# Altium footprint library PcbLib1.PcbLib: 1 footprints
Each footprint in its own frame and in the unit in brackets; x right, y up, seen from the top. Pads: shape width x height; smd on the part's side, far side on the other; paste and mask are expansions set on the pad; w line width, h text height; cw(c..) or ccw(c..) is an arc to the next point about the centre after c.
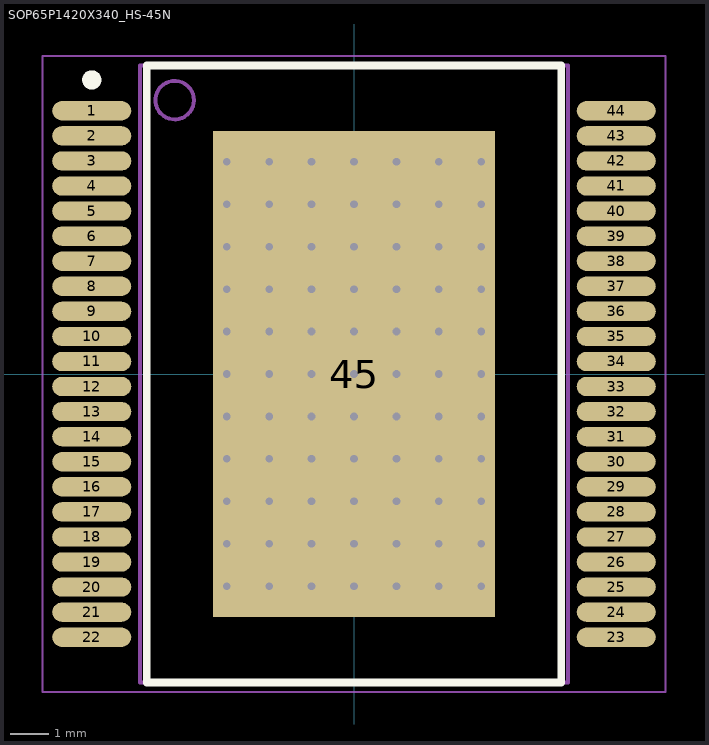
[diagram p0: the footprint, top view; thin cyan lines are the x and y axes]

## SOP65P1420X340_HS-45N [mm] "SOP, 44-Leads, Body 15.90x11.00mm, Pitch 0.65mm, Thermal Pad 12.60x7.30mm, IPC Medium Density"
height 3.4
pads (45):
  oval 2.05x0.5 smd: 1(-6.8,6.825) 2(-6.8,6.175) 3(-6.8,5.525) 4(-6.8,4.875) 5(-6.8,4.225) 6(-6.8,3.575) 7(-6.8,2.925) 8(-6.8,2.275) 9(-6.8,1.625) 10(-6.8,0.975) 11(-6.8,0.325) 12(-6.8,-0.325) 13(-6.8,-0.975) 14(-6.8,-1.625) 15(-6.8,-2.275) 16(-6.8,-2.925) 17(-6.8,-3.575) 18(-6.8,-4.225) 19(-6.8,-4.875) 20(-6.8,-5.525) 21(-6.8,-6.175) 22(-6.8,-6.825) 23(6.8,-6.825) 24(6.8,-6.175) 25(6.8,-5.525) 26(6.8,-4.875) 27(6.8,-4.225) 28(6.8,-3.575) 29(6.8,-2.925) 30(6.8,-2.275) 31(6.8,-1.625) 32(6.8,-0.975) 33(6.8,-0.325) 34(6.8,0.325) 35(6.8,0.975) 36(6.8,1.625) 37(6.8,2.275) 38(6.8,2.925) 39(6.8,3.575) 40(6.8,4.225) 41(6.8,4.875) 42(6.8,5.525) 43(6.8,6.175) 44(6.8,6.825)
  rect 7.3x12.6 smd: 45(0,0)
via 3.3,-5.5 diameter 0.5 hole 0.2
via 2.2,-5.5 diameter 0.5 hole 0.2
via 1.1,-5.5 diameter 0.5 hole 0.2
via 0,-5.5 diameter 0.5 hole 0.2
via -1.1,-5.5 diameter 0.5 hole 0.2
via -2.2,-5.5 diameter 0.5 hole 0.2
via -3.3,-5.5 diameter 0.5 hole 0.2
via 3.3,-4.4 diameter 0.5 hole 0.2
via 2.2,-4.4 diameter 0.5 hole 0.2
via 1.1,-4.4 diameter 0.5 hole 0.2
via 0,-4.4 diameter 0.5 hole 0.2
via -1.1,-4.4 diameter 0.5 hole 0.2
via -2.2,-4.4 diameter 0.5 hole 0.2
via -3.3,-4.4 diameter 0.5 hole 0.2
via 3.3,-3.3 diameter 0.5 hole 0.2
via 2.2,-3.3 diameter 0.5 hole 0.2
via 1.1,-3.3 diameter 0.5 hole 0.2
via 0,-3.3 diameter 0.5 hole 0.2
via -1.1,-3.3 diameter 0.5 hole 0.2
via -2.2,-3.3 diameter 0.5 hole 0.2
via -3.3,-3.3 diameter 0.5 hole 0.2
via 3.3,-2.2 diameter 0.5 hole 0.2
via 2.2,-2.2 diameter 0.5 hole 0.2
via 1.1,-2.2 diameter 0.5 hole 0.2
via 0,-2.2 diameter 0.5 hole 0.2
via -1.1,-2.2 diameter 0.5 hole 0.2
via -2.2,-2.2 diameter 0.5 hole 0.2
via -3.3,-2.2 diameter 0.5 hole 0.2
via 3.3,-1.1 diameter 0.5 hole 0.2
via 2.2,-1.1 diameter 0.5 hole 0.2
via 1.1,-1.1 diameter 0.5 hole 0.2
via 0,-1.1 diameter 0.5 hole 0.2
via -1.1,-1.1 diameter 0.5 hole 0.2
via -2.2,-1.1 diameter 0.5 hole 0.2
via -3.3,-1.1 diameter 0.5 hole 0.2
via 3.3,0 diameter 0.5 hole 0.2
via 2.2,0 diameter 0.5 hole 0.2
via 1.1,0 diameter 0.5 hole 0.2
via 0,0 diameter 0.5 hole 0.2
via -1.1,0 diameter 0.5 hole 0.2
via -2.2,0 diameter 0.5 hole 0.2
via -3.3,0 diameter 0.5 hole 0.2
via 3.3,1.1 diameter 0.5 hole 0.2
via 2.2,1.1 diameter 0.5 hole 0.2
via 1.1,1.1 diameter 0.5 hole 0.2
via 0,1.1 diameter 0.5 hole 0.2
via -1.1,1.1 diameter 0.5 hole 0.2
via -2.2,1.1 diameter 0.5 hole 0.2
via -3.3,1.1 diameter 0.5 hole 0.2
via 3.3,2.2 diameter 0.5 hole 0.2
via 2.2,2.2 diameter 0.5 hole 0.2
via 1.1,2.2 diameter 0.5 hole 0.2
via 0,2.2 diameter 0.5 hole 0.2
via -1.1,2.2 diameter 0.5 hole 0.2
via -2.2,2.2 diameter 0.5 hole 0.2
via -3.3,2.2 diameter 0.5 hole 0.2
via 3.3,3.3 diameter 0.5 hole 0.2
via 2.2,3.3 diameter 0.5 hole 0.2
via 1.1,3.3 diameter 0.5 hole 0.2
via 0,3.3 diameter 0.5 hole 0.2
via -1.1,3.3 diameter 0.5 hole 0.2
via -2.2,3.3 diameter 0.5 hole 0.2
via -3.3,3.3 diameter 0.5 hole 0.2
via 3.3,4.4 diameter 0.5 hole 0.2
via 2.2,4.4 diameter 0.5 hole 0.2
via 1.1,4.4 diameter 0.5 hole 0.2
via 0,4.4 diameter 0.5 hole 0.2
via -1.1,4.4 diameter 0.5 hole 0.2
via -2.2,4.4 diameter 0.5 hole 0.2
via -3.3,4.4 diameter 0.5 hole 0.2
via 3.3,5.5 diameter 0.5 hole 0.2
via 2.2,5.5 diameter 0.5 hole 0.2
via 1.1,5.5 diameter 0.5 hole 0.2
via 0,5.5 diameter 0.5 hole 0.2
via -1.1,5.5 diameter 0.5 hole 0.2
via -2.2,5.5 diameter 0.5 hole 0.2
via -3.3,5.5 diameter 0.5 hole 0.2
Top Overlay:
  circle w0.25: c-6.8,7.625 r0.125
  lines w0.2: -5.375,-8 5.375,-8 5.375,8 -5.375,8 -5.375,-8
Mechanical 13:
  circle w0.1: c-4.65,7.1 r0.5
  lines w0.1: -5.55,-8 5.55,-8 5.55,8 -5.55,8 -5.55,-8
Mechanical 15:
  lines w0.05: -8.075,-8.25 8.075,-8.25 8.075,8.25 -8.075,8.25 -8.075,-8.25
  lines w0.1: -0.5,0 0.5,0 ; 0,-0.5 0,0.5
3D body "SOP65P1420X340_HS-45N.step": height 3.4, standoff 0, extent -7.1,-8 7.1,8